# EAGLE library part LM301 (library dec-con)
LM301 Operational Amplifier
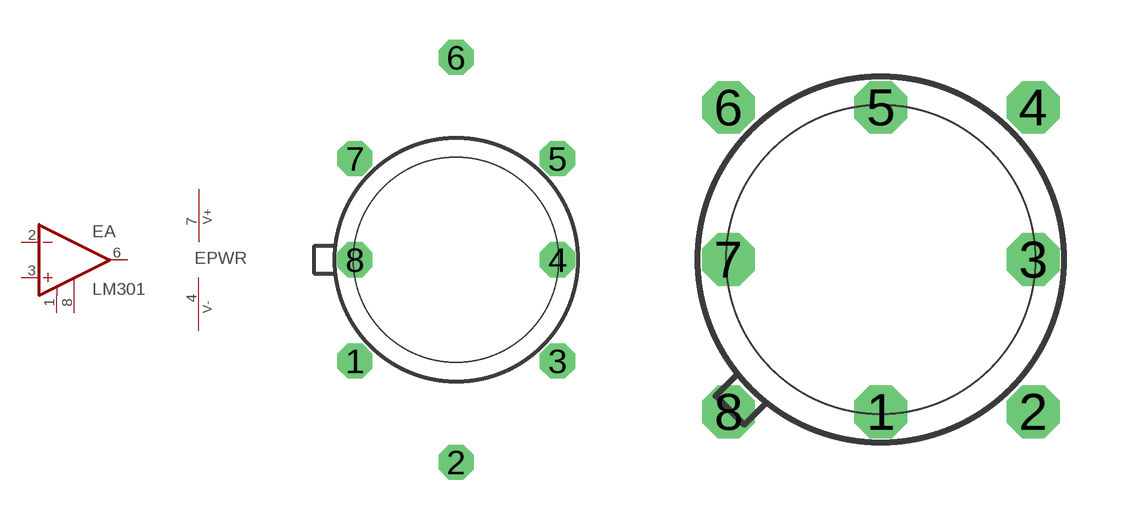
[diagram p56: symbol with the pads of TO99; footprints TO99, TO99B]

Designator prefix E; gates A=LM301 PWR=PWRV

## LM301  [TO99]
1  A:ON/CMP  pas
2  A:-IN  in
3  A:+IN  in
4  PWR:-15V  pwr
6  A:OUT  out
7  PWR:+10V  pwr
8  A:CMP  pas

## LM301B  [TO99B]
Pads as for TO99

## LM301C  [TO99C]
Pads as for TO99

## Footprint TO99 (pad centres in mm)
TO99 case distorted to match DEC layout.
drill 0.813 octagon: 1 -3.81,-3.81; 2 0,-7.62; 3 3.81,-3.81; 4 3.81,0; 5 3.81,3.81; 6 0,7.62; 7 -3.81,3.81; 8 -3.81,0

## Footprint TO99B (pad centres in mm)
TO99 with pads stretched to a square grid
drill 0.813 octagon: 1 0,-3.81; 2 3.81,-3.81; 3 3.81,0; 4 3.81,3.81; 5 0,3.81; 6 -3.81,3.81; 7 -3.81,0; 8 -3.81,-3.81

## Footprint TO99C (pad centres in mm)
TO99 rotate 45 degrees.
drill 0.813 octagon: 1 -3.81,-3.81; 2 0,-3.81; 3 3.81,-3.81; 4 3.81,0; 5 3.81,3.81; 6 0,3.81; 7 -3.81,3.81; 8 -3.81,0